# Altium schematic symbol library DK2.SchLib: 42 symbols
Pins are listed as number, name and electrical type; pins without a type are passive.

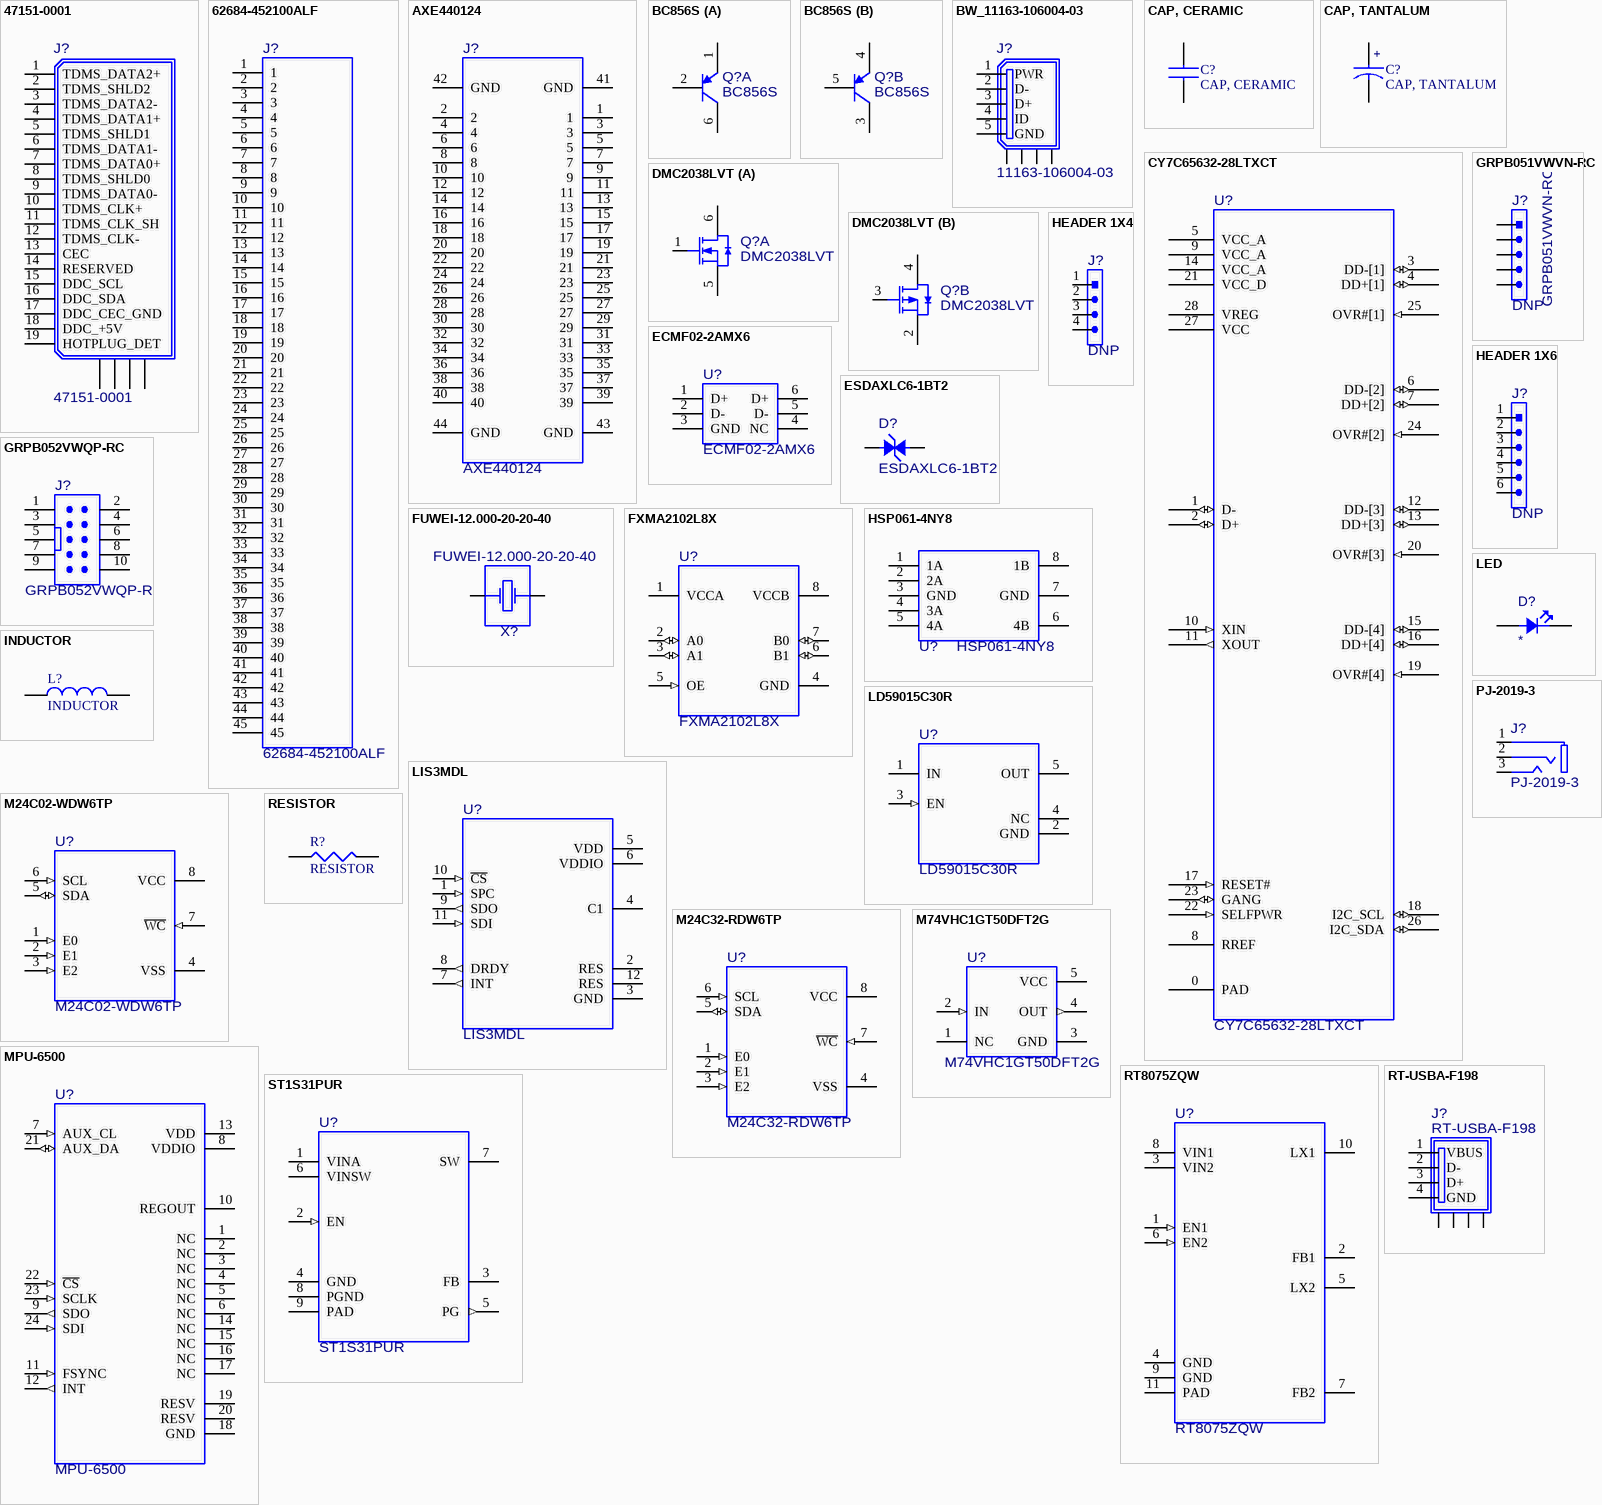
[diagram p0: symbols 47151-0001 to ST1S31PUR]

## 47151-0001
designator J?
CONNECTOR, HDMI TYPE A, R/A, SMD; Manufacturer: MOLEX; Part Number: 47151-0001
footprint 47151-0001
pins: 1 TDMS_DATA2+, 2 TDMS_SHLD2, 3 TDMS_DATA2-, 4 TDMS_DATA1+, 5 TDMS_SHLD1, 6 TDMS_DATA1-, 7 TDMS_DATA0+, 8 TDMS_SHLD0, 9 TDMS_DATA0-, 10 TDMS_CLK+, 11 TDMS_CLK_SH, 12 TDMS_CLK-, 13 CEC, 14 RESERVED, 15 DDC_SCL, 16 DDC_SDA, 17 DDC_CEC_GND, 18 DDC_+5V, 19 HOTPLUG_DET, 20 SHIELD, 21 SHIELD, 22 SHIELD, 23 SHIELD

## 62684-452100ALF
designator J?
CONNECTOR, FPC HEADER, 45 POS, 0.5MM PITCH; Manufacturer: FCI; Part Number: 62684-452100ALF
footprint FCI_62684-452100ALF
pins: 1, 2, 3, 4, 5, 6, 7, 8, 9, 10, 11, 12, 13, 14, 15, 16, 17, 18, 19, 20, 21, 22, 23, 24, 25, 26, 27, 28, 29, 30, 31, 32, 33, 34, 35, 36, 37, 38, 39, 40, 41, 42, 43, 44, 45

## AXE440124
designator J?
CONNECTOR, 40-PIN HEADER, 0.4MM PITCH; Manufacturer: PANASONIC; Part Number: AXE440124; Verified Pinout: *
footprint AXE440124 (Footprint not found)
pins: 1, 2, 3, 4, 5, 6, 7, 8, 9, 10, 11, 12, 13, 14, 15, 16, 17, 18, 19, 20, 21, 22, 23, 24, 25, 26, 27, 28, 29, 30, 31, 32, 33, 34, 35, 36, 37, 38, 39, 40, 41 GND (power), 42 GND (power), 43 GND (power), 44 GND (power)

## BC856S
designator Q?
TRANSISTOR, DUAL SILICON PNP; Manufacturer: INFINEON; Part Number: BC856S H6327
footprint SOT363
part A pins: 1 E, 2 B, 6 C
part B pins: 3 C, 4 E, 5 B

## BW_11163-106004-03
designator J?, comment 11163-106004-03
CONNECTOR, USB MINI B, R/A, SMD; Manufacturer: BERWAY TECHNOLOGY; Part Number: 11163-106004-03
footprint BW_11163-106004-03 (Footprint not found)
pins: 1 PWR (power), 2 D- (hiz), 3 D+ (hiz), 4 ID, 5 GND (power), 6 SHIELD, 7 SHIELD, 8 SHIELD, 9 SHIELD

## CAP, CERAMIC
designator C?
CAPACITOR, CERAMIC; Manufacturer: *; Part Number: *; Package: *; Tolerance: *; Dielectric: *; Voltage: *
pins: 1, 2

## CAP, TANTALUM
designator C?
CAPACITOR, TANTALUM; Manufacturer: *; Part Number: *; Package: *; Tolerance: *; Voltage: *; ESR: *
pins: 1, 2
text: +

## CY7C65632-28LTXCT
designator U?
IC, USB 2.0 HUB CONTROLLER, 4-PORT, STT; Manufacturer: CYPRESS SEMICONDUCTOR; Part Number: CY7C65632-28LTXCT; Verified Pinout: *
footprint QFN-28
pins: 0 PAD (power), 1 D- (io), 2 D+ (io), 3 DD-[1] (io), 4 DD+[1] (io), 5 VCC_A (power), 6 DD-[2] (io), 7 DD+[2] (io), 8 RREF, 9 VCC_A (power), 10 XIN (in), 11 XOUT (out), 12 DD-[3] (io), 13 DD+[3] (io), 14 VCC_A (power), 15 DD-[4] (io), 16 DD+[4] (io), 17 RESET# (in), 18 I2C_SCL (io), 19 OVR#[4] (in), 20 OVR#[3] (in), 21 VCC_D (power), 22 SELFPWR (in), 23 GANG (io), 24 OVR#[2] (in), 25 OVR#[1] (in), 26 I2C_SDA (io), 27 VCC (power), 28 VREG (power)

## DMC2038LVT
designator Q?
FET, COMPLEMENTARY, LOGIC LEVEL; Manufacturer: DIODES INC; Part Number: DMC2038LVT
footprint TSOT26 (Footprint not found)
part A pins: 1 G, 5 S, 6 D
part B pins: 2 S, 3 G, 4 D

## ECMF02-2AMX6
designator U?
IC, COMMON MODE FILTER WITH ESD PROTECTION FOR MIPI; Manufacturer: STMICROELECTRONICS; Part Number: ECMF02-2AMX6; Verified Pinout: *
footprint UQFN-6L (Footprint not found)
pins: 1 D+, 2 D-, 3 GND (power), 4 NC (power), 5 D-, 6 D+

## ESDAXLC6-1BT2
designator D?
DIODE, ESD SUPPRESSOR, SINGLE LINE BI-DIRECTIONAL, LOW CAPACITANCE; Manufacturer: ST MICROELECTRONICS; Part Number: ESDAXLC6-1BT2
footprint SOD-882T
pins: 1, 2

## FUWEI-12.000-20-20-40
designator X?
CRYSTAL, 12MHZ, +/-30PPM, 20pF, HC-49USX; Manufacturer: BERWAY TECHNOLOGY; Part Number: FUWEI-12.000-20-20-40; Pinout Verified: *
footprint HC-49USX (Footprint not found)
pins: 1, 2 3

## FXMA2102L8X
designator U?
IC, I2C TRANSLATOR, BUFFER AND REPEATER; Manufacturer: FAIRCHILD SEMICONDUCTOR; Part Number: FXMA2102L8X; Verified Pinout: *
footprint UFQFN-8 (Footprint not found)
pins: 1 VCCA (power), 2 A0 (io), 3 A1 (io), 4 GND (power), 5 OE (in), 6 B1 (io), 7 B0 (io), 8 VCCB (power)

## GRPB051VWVN-RC
designator J?  (no BOM)
CONNECTOR, HEADER, 1X5, 0.05" PITCH; Manufacturer: SULLINS CONNECTOR; Part Number: GRPB051VWVN-RC; DNP: DNP
footprint GRPB051VWVN-RC (Footprint not found)
pins: 1, 2, 3, 4, 5

## GRPB052VWQP-RC
designator J?  (no BOM)
CONNECTOR, 10 POS, ARM CORTEX SWD HEADER; Manufacturer: SULLINS CONNECTOR; Part Number: GRPB052VWQP-RC
footprint GRPB052VWQP-RC (Footprint not found)
pins: 1, 2, 3, 4, 5, 6, 7, 8, 9, 10

## HEADER 1X4
designator J?, comment DNP  (no BOM)
CONNECTOR, HEADER, 4 POS, 1X4, 0.1" PITCH; Manufacturer: TBD; Part Number: TBD; Pitch: 0.1"
footprint HEADER_1X4 (Footprint not found)
pins: 1, 2, 3, 4

## HEADER 1X6
designator J?, comment DNP  (no BOM)
CONNECTOR, HEADER, 6 POS, 1X6, 0.1" PITCH; Manufacturer: TBD; Part Number: TBD; Pitch: 0.1"
footprint HEADER_1X6 (Footprint not found)
pins: 1, 2, 3, 4, 5, 6

## HSP061-4NY8
designator U?
IC, 4-LINE ESD PROTECTION ARRAY, HIGH SPEED; Manufacturer: STMICROELECTRONICS; Part Number: HSP061-4NY8; Verified Pinout: *
footprint HSP061-4NY8 (Footprint not found)
pins: 1 1A, 2 2A, 3 GND (power), 4 3A, 5 4A, 6 4B, 7 GND (power), 8 1B

## INDUCTOR
designator L?
Manufacturer: *; Part Number: *; Tolerance: *; Package: *
pins: 1, 2

## LD59015C30R
designator U?
IC, LDO REGULATOR, 3.0V, 150mA, HIGH PSRR; Manufacturer: STMICROELECTRONICS; Part Number: LD59015C30R; Pinout verified: *
footprint SOT323-5L (Footprint not found)
pins: 1 IN (power), 2 GND (power), 3 EN (in), 4 NC (power), 5 OUT (power)

## LED
designator D?  (value not drawn)
LED, COLOR, PACKAGE; Forward Voltage Drop: X.XV TYP, X.XV MAX; Manufacturer: *; Part Number: *; Color: *
footprint * (Footprint not found)
pins: 1 A, 2 K

## LIS3MDL
designator U?
IC, MEMS 3 AXIS MAGNETOMETER; Manufacturer: STMICROELECTRONICS; Part Number: LIS3MDLTR; Verified Pinout: *
footprint LGA-12 (Footprint not found)
pins: 1 SPC (in), 2 RES, 3 GND (power), 4 C1, 5 VDD (power), 6 VDDIO (power), 7 INT (out), 8 DRDY (out), 9 SDO (out), 10 ~{CS} (in), 11 SDI (in), 12 RES

## M24C02-WDW6TP
designator U?
IC, EEPROM, I2C, 2kB; Manufacturer: STMICROELECTRONICS; Part Number: M24C02-WDW6TP; Verified Pinout: *
footprint TSSOP8 (Footprint not found)
pins: 1 E0 (in), 2 E1 (in), 3 E2 (in), 4 VSS (power), 5 SDA (io), 6 SCL (in), 7 ~{WC} (in), 8 VCC (power)

## M24C32-RDW6TP
designator U?
IC, EEPROM, I2C, 32 Kbits; Manufacturer: STMICROELECTRONICS; Part Number: M24C32-RDW6TP; Verified Pinout: *
footprint TSSOP8 (Footprint not found)
pins: 1 E0 (in), 2 E1 (in), 3 E2 (in), 4 VSS (power), 5 SDA (io), 6 SCL (in), 7 ~{WC} (in), 8 VCC (power)

## M74VHC1GT50DFT2G
designator U?
IC, NON-INVERTING BUFFER, CMOS LOGIC LEVEL SHIFTER; Manufacturer: ON SEMICONDUCTOR; Part Number: M74VHC1GT50DFT2G; Pinout verified: *
footprint SC70-5
pins: 1 NC (power), 2 IN (in), 3 GND (power), 4 OUT (out), 5 VCC (power)

## MPU-6500
designator U?
IC, MEMS 3 AXIS GYROSCOPE AND 3 AXIS ACCELEROMETER; Manufacturer: INVENSENSE; Part Number: MPU-6500; Verified Pinout: *; Updated: *
footprint QFN-24
pins: 1 NC, 2 NC, 3 NC, 4 NC, 5 NC, 6 NC, 7 AUX_CL (in), 8 VDDIO (power), 9 SDO (out), 10 REGOUT (power), 11 FSYNC (in), 12 INT (out), 13 VDD (power), 14 NC, 15 NC, 16 NC, 17 NC, 18 GND (power), 19 RESV, 20 RESV, 21 AUX_DA (io), 22 ~{CS} (in), 23 SCLK (in), 24 SDI (in)

## PJ-2019-3
designator J?
CONNECTOR, 2.5MM STEREO AUDIO JACK; Manufacturer: BERWAY TECHNOLOGY; Part Number: PJ-2019-3
footprint PJ-2019-3 (Footprint not found)
pins: 1, 2, 3

## RESISTOR
designator R?
Manufacturer: *; Part Number: *; Tolerance: *; Package: *
pins: 1, 2

## RT8075ZQW
designator U?
IC, DUAL STEP DOWN CONVERTER, 1A, 1.25MHz; Manufacturer: RICHTEK; Part Number: RT8075ZQW; Pinout verified: *
footprint WDFN-10L (Footprint not found)
pins: 1 EN1 (in), 2 FB1, 3 VIN2 (power), 4 GND (power), 5 LX2 (power), 6 EN2 (in), 7 FB2, 8 VIN1 (power), 9 GND (power), 10 LX1 (power), 11 PAD (power)

## RT-USBA-F198
designator J?
CONNECTOR, USB TYPE A RECEPTICLE, MID MOUNT; Manufacturer: BERWAY TECHNOLOGY; Part Number: RT-USBA-F198
footprint RT-USBA-F198 (Footprint not found)
pins: 1 VBUS (power), 2 D- (hiz), 3 D+ (hiz), 4 GND, 5 SHIELD, 6 SHIELD, 7 SHIELD, 8 SHIELD

## ST1S31PUR
designator U?
IC, BUCK REGULATOR, 3A; Manufacturer: STMICROELECTRONICS; Part Number: ST1S31PUR; Pinout verified: *
footprint VFDFPN-3x3-8L (Footprint not found)
pins: 1 VINA (power), 2 EN (in), 3 FB, 4 GND (power), 5 PG (out), 6 VINSW (power), 7 SW, 8 PGND (power), 9 PAD

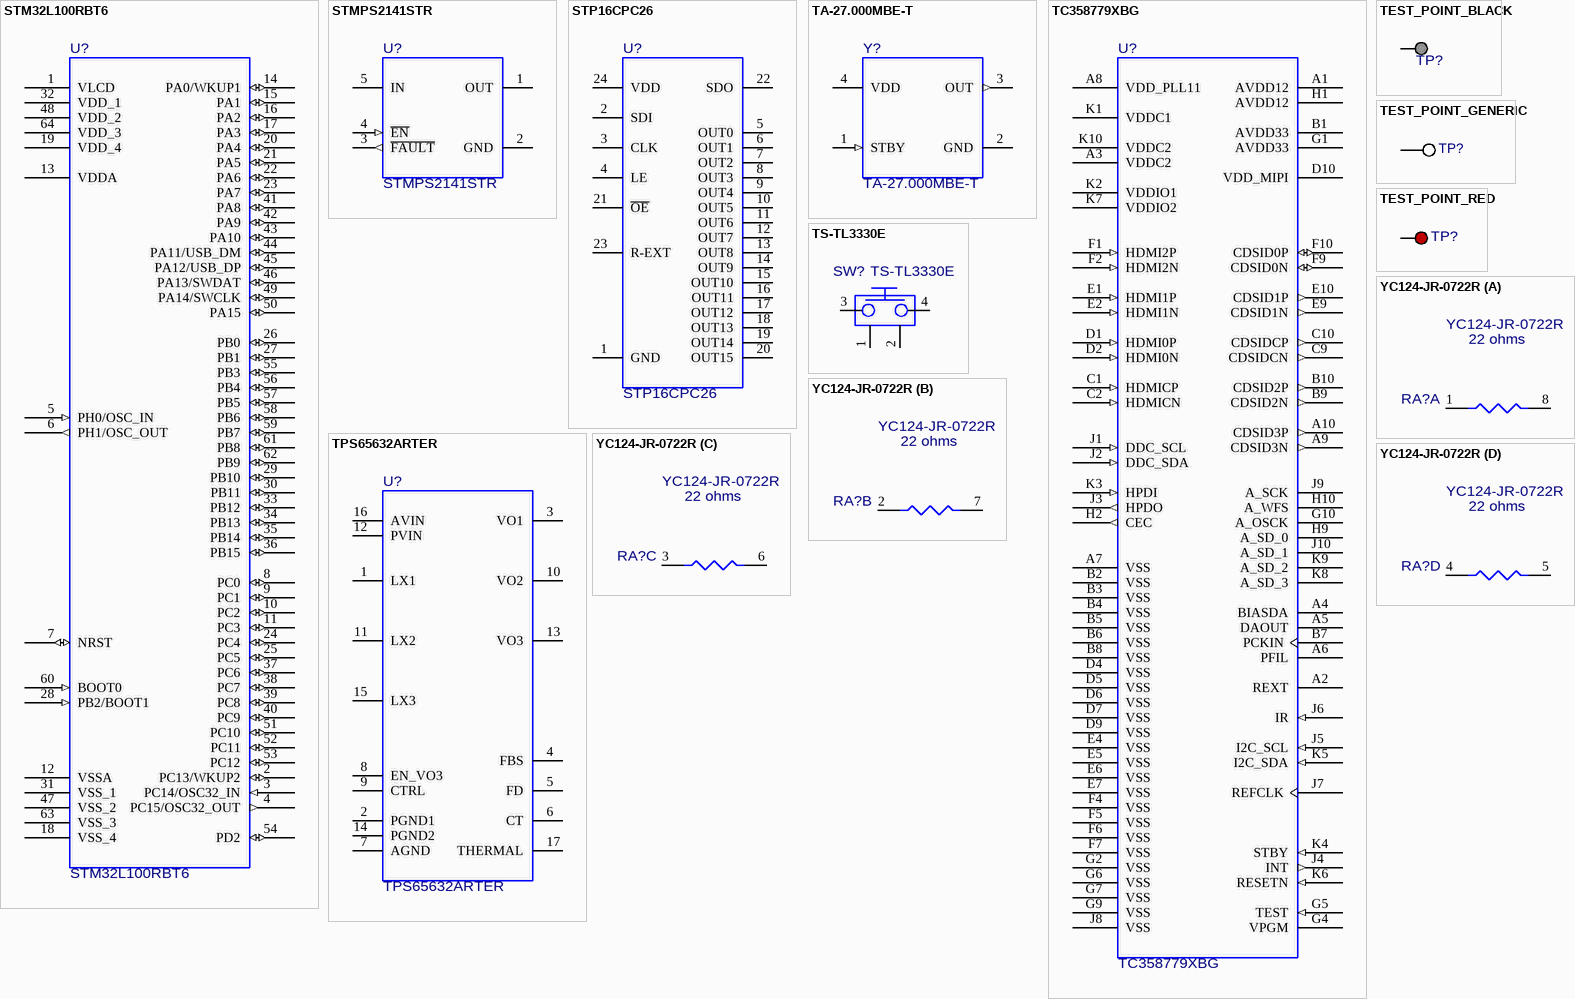
[diagram p1: symbols STM32L100RBT6 to YC124-JR-0722R]

## STM32L100RBT6
designator U?
IC, STM32L MICROCONTROLLER, ARM CORTEX M3; Manufacturer: ST MICROELECTRONICS; Part Number: STM32L100RBT6; Verified Pinout: *
footprint LQFP64 (Footprint not found)
pins: 1 VLCD (power), 2 PC13/WKUP2 (io), 3 PC14/OSC32_IN (in), 4 PC15/OSC32_OUT (out), 5 PH0/OSC_IN (in), 6 PH1/OSC_OUT (out), 7 NRST (io), 8 PC0 (io), 9 PC1 (io), 10 PC2 (io), 11 PC3 (io), 12 VSSA (power), 13 VDDA (power), 14 PA0/WKUP1 (io), 15 PA1 (io), 16 PA2 (io), 17 PA3 (io), 18 VSS_4 (power), 19 VDD_4 (power), 20 PA4 (io), 21 PA5 (io), 22 PA6 (io), 23 PA7 (io), 24 PC4 (io), 25 PC5 (io), 26 PB0 (io), 27 PB1 (io), 28 PB2/BOOT1 (in), 29 PB10 (io), 30 PB11 (io), 31 VSS_1 (power), 32 VDD_1 (power), 33 PB12 (io), 34 PB13 (io), 35 PB14 (io), 36 PB15 (io), 37 PC6 (io), 38 PC7 (io), 39 PC8 (io), 40 PC9 (io), 41 PA8 (io), 42 PA9 (io), 43 PA10 (io), 44 PA11/USB_DM (io), 45 PA12/USB_DP (io), 46 PA13/SWDAT (io), 47 VSS_2 (power), 48 VDD_2 (power), 49 PA14/SWCLK (io), 50 PA15 (io), 51 PC10 (io), 52 PC11 (io), 53 PC12 (io), 54 PD2 (io), 55 PB3 (io), 56 PB4 (io), 57 PB5 (io), 58 PB6 (io), 59 PB7 (io), 60 BOOT0 (in), 61 PB8 (io), 62 PB9 (io), 63 VSS_3 (power), 64 VDD_3 (power)

## STMPS2141STR
designator U?
IC, USB POWER DISTRIBUTION SWITCH, 500mA CURRENT LIMIT; Manufacturer: STMICROELECTRONICS; Part Number: STMPS2141STR; Pinout verified: *
footprint SOT23-5L (Footprint not found)
pins: 1 OUT (power), 2 GND (power), 3 ~{FAULT} (out), 4 ~{EN} (in), 5 IN (power)

## STP16CPC26
designator U?
IC, LED DRIVER, 16-BIT CONSTANT CURRENT SINK DRIVER; Manufacturer: STMICROELECTRONICS; Part Number: STP16CPC26TTR
footprint TSSOP24 (Footprint not found)
pins: 1 GND, 2 SDI, 3 CLK, 4 LE, 5 OUT0, 6 OUT1, 7 OUT2, 8 OUT3, 9 OUT4, 10 OUT5, 11 OUT6, 12 OUT7, 13 OUT8, 14 OUT9, 15 OUT10, 16 OUT11, 17 OUT12, 18 OUT13, 19 OUT14, 20 OUT15, 21 ~{OE}, 22 SDO, 23 R-EXT, 24 VDD

## TA-27.000MBE-T
designator Y?
OSCILLATOR, 27MHz, MEMS, 3.3V, 50PPM; Manufacturer: TXC; Part Number: TA-27.000MBE-T; Verified Pinout: *
footprint TXC_TD
pins: 1 STBY (in), 2 GND (power), 3 OUT (out), 4 VDD (power)

## TC358779XBG
designator U?
IC, HDMI RX TO MIPI DSI TX BRIDGE; Manufacturer: TOSHIBA; Part Number: TC358779XBG; Verified Pinout: *
footprint BGA80 (Footprint not found)
pins: A1 AVDD12 (power), A2 REXT, A3 VDDC2 (power), A4 BIASDA, A5 DAOUT, A6 PFIL, A7 VSS (power), A8 VDD_PLL11 (power), A9 CDSID3N (out), A10 CDSID3P (out), B1 AVDD33 (power), B2 VSS (power), B3 VSS (power), B4 VSS (power), B5 VSS (power), B6 VSS (power), B7 PCKIN, B8 VSS (power), B9 CDSID2N (out), B10 CDSID2P (out), C1 HDMICP (in), C2 HDMICN (in), C9 CDSIDCN (out), C10 CDSIDCP (out), D1 HDMI0P (in), D2 HDMI0N (in), D4 VSS (power), D5 VSS (power), D6 VSS (power), D7 VSS (power), D9 VSS (power), D10 VDD_MIPI (power), E1 HDMI1P (in), E2 HDMI1N (in), E4 VSS (power), E5 VSS (power), E6 VSS (power), E7 VSS (power), E9 CDSID1N (out), E10 CDSID1P (out), F1 HDMI2P (in), F2 HDMI2N (in), F4 VSS (power), F5 VSS (power), F6 VSS (power), F7 VSS (power), F9 CDSID0N (io), F10 CDSID0P (io), G1 AVDD33 (power), G2 VSS (power), G4 VPGM (power), G5 TEST (in), G6 VSS (power), G7 VSS (power), G9 VSS (power), G10 A_OSCK, H1 AVDD12 (power), H2 CEC (out), H9 A_SD_0, H10 A_WFS, J1 DDC_SCL (in), J2 DDC_SDA (in), J3 HPDO (out), J4 INT (out), J5 I2C_SCL (in), J6 IR (in), J7 REFCLK, J8 VSS (power), J9 A_SCK, J10 A_SD_1, K1 VDDC1 (power), K2 VDDIO1 (power), K3 HPDI (in), K4 STBY (in), K5 I2C_SDA (in), K6 RESETN (in), K7 VDDIO2 (power), K8 A_SD_3, K9 A_SD_2, K10 VDDC2 (power)

## TEST_POINT_BLACK
designator TP?, comment TEST POINT BLACK  (value not drawn)  (no BOM)
Manufacturer: KEYSTONE ELECTRONICS; Part Number: 5001
footprint POGO PIN
footprint KS_5001_TEST_POINT_BLACK (Footprint not found)
pins: 1

## TEST_POINT_GENERIC
designator TP?, comment TEST POINT  (value not drawn)  (no BOM)
Manufacturer: *; Part Number: *
footprint POGO PIN
footprint TEST_POINT_PAD_1MM
pins: 1

## TEST_POINT_RED
designator TP?, comment TEST POINT RED  (value not drawn)  (no BOM)
Manufacturer: KEYSTONE ELECTRONICS; Part Number: 5000
footprint POGO PIN
footprint KS_500X_TEST_POINT (Footprint not found)
pins: 1

## TPS65632ARTER
designator U?
IC, TRIPLE OUTPUT AMOLED DISPLAY POWER SUPPLY; Manufacturer: TEXAS INSTRUMENTS; Part Number: TPS65632ARTER
footprint S-PWQFN-N16
pins: 1 LX1, 2 PGND1, 3 VO1, 4 FBS, 5 FD, 6 CT, 7 AGND, 8 EN_VO3, 9 CTRL, 10 VO2, 11 LX2, 12 PVIN, 13 VO3, 14 PGND2, 15 LX3, 16 AVIN, 17 THERMAL

## TS-TL3330E
designator SW?
SWITCH, TACTILE, SPST-NO, 250gf; Manufacturer: BERWAY TECHNOLOGY; Part Number: TS-TL3330E
footprint TS-TL3330E (Footprint not found)
pins: 1, 2, 3, 4

## YC124-JR-0722R
designator RA?  value 22 ohms
RESISTOR ARRAY, 4 RESISTORS, 22 OHM, 5%, 0.5MM PITCH; Manufacturer: YAGEO; Part Number: YC124-JR-0722R; Pinout verified: *
footprint YC124 (Footprint not found)
part A pins: 1, 8
part B pins: 2, 7
part C pins: 3, 6
part D pins: 4, 5